# Altium schematic symbol library MIC29151.SchLib: 1 symbol
Pins are listed as number, name and electrical type; pins without a type are passive.

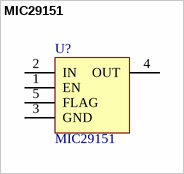
[diagram p0: symbol MIC29151]

## MIC29151
designator U?
1A Dropout Adjustable Regulator; Part Field 1: IC, Regulator; Part Field 7: $3.78; Part Field 6: 222-1627; Part Field 3: TS5B; Part Field 4: MICREL; Part Field 2: Voltage Regulator, 5V; Part Field 5: MIC29151-5.0WUT
footprint TO-263-5
pins: 1 EN, 2 IN (power), 3 GND (power), 4 OUT (power), 5 FLAG (oc)